# Altium schematic symbol library FU_PTC.SchLib: 1 symbol
Pins are listed as number, name and electrical type; pins without a type are passive.

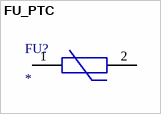
[diagram p0: symbol FU_PTC]

## FU_PTC
designator FU?
pins: 1, 2